# EAGLE library part 6180XX233821_618037233821 (library 618015233821_Eagle_WR-DSUB_rev20a)
WR-DSUB 10.30 mm Female Angled PCB Connector w/o Hex Screw Kind Properties Quality Class:3 as per CECC 75 301-802 Gender:Female Type:Angled Insulator Material:PBT Insulator Flammability Rating:UL94 V-0 Color:Black Contact Material:Copper Alloy Contact Plating:Selective Gold Contact Type:Stamped Shielding Material:Steel Shielding Plating:Nickel General Information Operating Temperature:-55 up to +105 °C Compliance:RoHS Electrical Properties IR1:3 A Working Voltage:125 V (AC) Withstanding Voltage:1000 V (AC) Contact Resistance:30 mΩ <https://www.we-online.com/catalog/media/o60818v209%20Family_I-O_DSUB_PCB_Female_wo-screw_6180xx211821_pf2.jpg> Details see: https://www.we-online.com/catalog/en/DSUB_FEMALE_ANGLED_PCB_CONNECTOR_W_O_HEX_SCREW_10_30MM_6180XX233821/ Updated by Yingchun, Shan 2020-01-14 2020 (C) Würth Elektronik
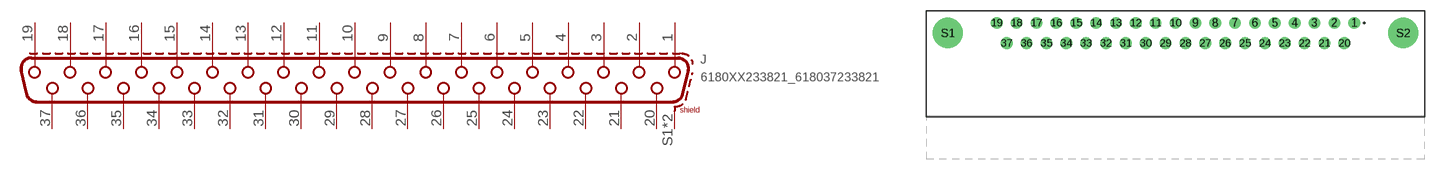
[diagram p26: symbol with the pads of 618037233821; footprint 618037233821]

Designator prefix J

## 6180XX233821_618037233821 (DATASHEET-URL: https://www.we-online.com/catalog/datasheet/618037233821.pdf; GENDER: Female; MATES-WITH: WR-DSUB 10.30 mm Male Angled PCB Connector w/o Hex Screw/8.08 mm Male Angled PCB Connector w. Hex Screw/8.08 mm Male Angled PCB Connector w/o Hex Screw /Male IDC with UNC 4-40 Nut/Male IDC/Male PCB Connector with Hex Screw /Male PCB Connector /Male Solder Bucket; PART-NUMBER: 618037233821; PINS: 37; TYPE: Angled; WE-NUMBER: 618037233821)  [618037233821]
1  1
2  2
3  3
4  4
5  5
6  6
7  7
8  8
9  9
10  10
11  11
12  12
13  13
14  14
15  15
16  16
17  17
18  18
19  19
20  20
21  21
22  22
23  23
24  24
25  25
26  26
27  27
28  28
29  29
30  30
31  31
32  32
33  33
34  34
35  35
36  36
37  37
S1  SHIELD
S2  SHIELD

## Footprint 618037233821 (pad centres in mm)
WR-DSUB 10.3mm Female Angled PCB Connector without Hex Screw, 37 Pins
drill 1.09: 1 24.93,8.735; 2 22.16,8.735; 3 19.39,8.735; 4 16.62,8.735; 5 13.85,8.735; 6 11.08,8.735; 7 8.31,8.735; 8 5.54,8.735; 9 2.77,8.735; 10 0,8.735; 11 -2.77,8.735; 12 -5.54,8.735; 13 -8.31,8.735; 14 -11.08,8.735; 15 -13.85,8.735; 16 -16.62,8.735; 17 -19.39,8.735; 18 -22.16,8.735; 19 -24.93,8.735; 20 23.545,5.895; 21 20.775,5.895; 22 18.005,5.895; 23 15.235,5.895; 24 12.465,5.895; 25 9.695,5.895; 26 6.925,5.895; 27 4.155,5.895; 28 1.385,5.895; 29 -1.385,5.895; 30 -4.155,5.895; 31 -6.925,5.895; 32 -9.695,5.895; 33 -12.465,5.895; 34 -15.235,5.895; 35 -18.005,5.895; 36 -20.775,5.895; 37 -23.545,5.895
drill 3.2: S1 -31.75,7.315; S2 31.75,7.315